# Altium schematic symbol library TelemetryV1.SCHLIB: 9 symbols
Pins are listed as number, name and electrical type; pins without a type are passive.

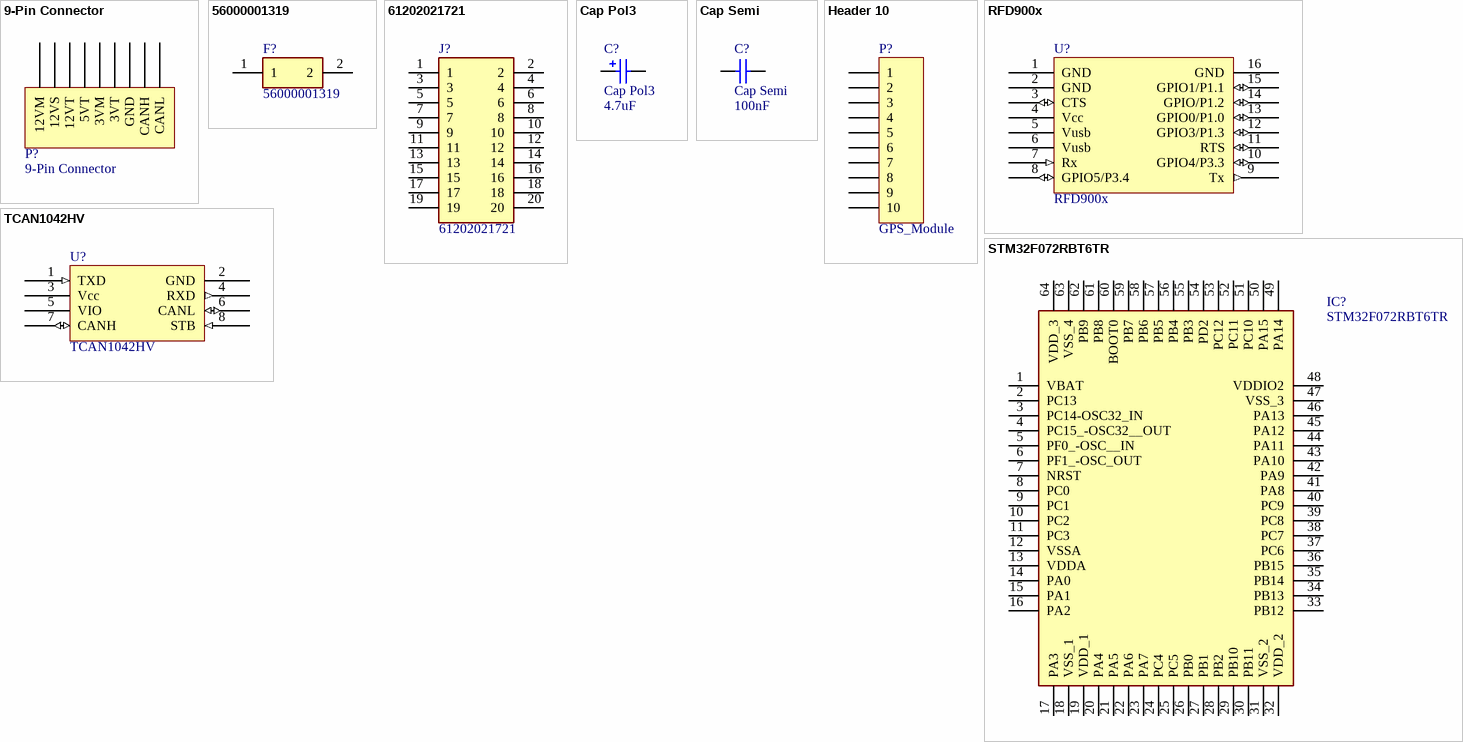
[diagram p0: symbols 9-Pin Connector to TCAN1042HV]

## 9-Pin Connector
designator P?
footprint 9-Pin
pins: 1 12VM, 2 12VS, 3 12VT, 4 5VT, 5 3VM, 6 3VT, 7 GND, 8 CANH, 9 CANL

## 56000001319
designator F?
Fuse; Manufacturer_Name: LITTELFUSE; Datasheet Link: https://componentsearchengine.com/Datasheets/1/56000001319.pdf; Height: 4.3mm; Mouser Part Number: 576-56000001319; Mouser Price/Stock: https://www.mouser.com/Search/Refine.aspx?Keyword=576-56000001319; Manufacturer_Part_Number: 56000001319
footprint littlefuse_holder
pins: 1, 2

## 61202021721
designator J?
Wurth Elektronic 20 pin connector; Manufacturer_Name: Wurth Elektronik; Datasheet Link: https://componentsearchengine.com/Datasheets/1/61202021721.pdf; Height: 9.25mm; Mouser Part Number: 710-61202021721; Mouser Price/Stock: https://www.mouser.com/Search/Refine.aspx?Keyword=710-61202021721; Manufacturer_Part_Number: 61202021721
footprint ST-Link Header
pins: 1, 2, 3, 4, 5, 6, 7, 8, 9, 10, 11, 12, 13, 14, 15, 16, 17, 18, 19, 20

## Cap Pol3
designator C?  value 4.7uF
Polarized Capacitor (Surface Mount); Published: 8-Jun-2000; LatestRevisionDate: 29-May-2009; LatestRevisionNote: IPC-7351 Footprint Added.; PackageReference: C0805; Publisher: Altium Limited; PackageDescription: Chip Capacitor
footprint C0805 (Chip Capacitor, Body 2.0x1.3mm, IPC High Density)
footprint 1812 (Chip Capacitor, Body 4.5x3.2mm, IPC High Density)
footprint 1825 (Chip Capacitor, Body 4.5x6.4mm, IPC High Density)
footprint C2225 (Chip Capacitor, Body 5.7x6.4mm, IPC High Density)
footprint 2220 (Chip Capacitor, Body 5.7x5.0mm, IPC High Density)
simulation model CAP (Capacitor)
signal-integrity model Cap Pol
pins: 1, 2
1 alternate drawing of the same symbol

## Cap Semi
designator C?  value 100nF
Capacitor (Semiconductor SIM Model); Published: 8-Jun-2000; LatestRevisionDate: 29-May-2009; LatestRevisionNote: IPC-7351 Footprint Added.; PackageReference: C1206; Publisher: Altium Limited; PackageDescription: Chip Capacitor
footprint C1206 (Chip Capacitor, Body 3.2x1.6mm, IPC High Density)
footprint 0402 (Chip Capacitor, Body 1.0x0.5mm, IPC High Density)
footprint C2512 (Chip Capacitor, Body 2.54x1.27mm, IPC High Density)
footprint 1608[0603] (Chip Capacitor, Body 1.6x0.8mm, IPC High Density)
footprint C1210 (Chip Capacitor, Body 3.2x2.5mm, IPC High Density)
simulation model CAP (Semiconductor Capacitor)
signal-integrity model Cap Semi
pins: 1, 2

## Header 10
designator P?, comment GPS_Module
Header, 10-Pin; LatestRevisionDate: 17-Jul-2002; LatestRevisionNote: Re-released for DXP Platform.; Publisher: Altium Limited
footprint HDR1X10 (Connector; Header; 10 Position)
signal-integrity model Connector
pins: 1, 2, 3, 4, 5, 6, 7, 8, 9, 10

## RFD900x
designator U?
RF Modem; ComponentLink1Description: Datasheet Library; ComponentLink1URL: https://files.rfdesign.com.au/docs/; ComponentLink2Description: Connector; ComponentLink2URL: https://s3.amazonaws.com/catalogspreads-pdf/PAGE123%20.100%20SFH11%20SERIES%20FEMALE%20HDR%20ST%20RA.pdf
footprint RFD900X_w_conn
pins: 1 GND (power), 2 GND (power), 3 CTS (io), 4 Vcc (power), 5 Vusb (power), 6 Vusb (power), 7 Rx (in), 8 GPIO5/P3.4 (io), 9 Tx (out), 10 GPIO4/P3.3 (io), 11 RTS (io), 12 GPIO3/P1.3 (io), 13 GPIO0/P1.0 (io), 14 GPIO/P1.2 (io), 15 GPIO1/P1.1 (io), 16 GND (power)

## STM32F072RBT6TR
designator IC?
Integrated Circuit; Manufacturer_Name: STMicroelectronics; Datasheet Link: https://componentsearchengine.com/Datasheets/1/STM32F072RBT6TR.pdf; Height: 1.6mm; Mouser Part Number: 511-STM32F072RBT6TR; Mouser Price/Stock: https://www.mouser.com/Search/Refine.aspx?Keyword=511-STM32F072RBT6TR; Manufacturer_Part_Number: STM32F072RBT6TR
footprint STM32F072 64-pin
pins: 1 VBAT, 2 PC13, 3 PC14-OSC32_IN, 4 PC15_-OSC32__OUT, 5 PF0_-OSC__IN, 6 PF1_-OSC_OUT, 7 NRST, 8 PC0, 9 PC1, 10 PC2, 11 PC3, 12 VSSA, 13 VDDA, 14 PA0, 15 PA1, 16 PA2, 17 PA3, 18 VSS_1, 19 VDD_1, 20 PA4, 21 PA5, 22 PA6, 23 PA7, 24 PC4, 25 PC5, 26 PB0, 27 PB1, 28 PB2, 29 PB10, 30 PB11, 31 VSS_2, 32 VDD_2, 33 PB12, 34 PB13, 35 PB14, 36 PB15, 37 PC6, 38 PC7, 39 PC8, 40 PC9, 41 PA8, 42 PA9, 43 PA10, 44 PA11, 45 PA12, 46 PA13, 47 VSS_3, 48 VDDIO2, 49 PA14, 50 PA15, 51 PC10, 52 PC11, 53 PC12, 54 PD2, 55 PB3, 56 PB4, 57 PB5, 58 PB6, 59 PB7, 60 BOOT0, 61 PB8, 62 PB9, 63 VSS_4, 64 VDD_3

## TCAN1042HV
designator U?
TCAN1042Fault ProtectedCAN Transceiverwith CAN FD; ComponentLink1Description: Datasheet; ComponentLink1URL: http://www.ti.com/lit/ds/symlink/tcan1042hgv.pdf
footprint CANIC
pins: 1 TXD (in), 2 GND (power), 3 Vcc (power), 4 RXD (out), 5 VIO (power), 6 CANL (io), 7 CANH (io), 8 STB (in)